# Altium footprint library MB0002A.01.A.1.PcbLib: 1 footprints
Each footprint in its own frame and in the unit in brackets; x right, y up, seen from the top. Pads: shape width x height; smd on the part's side, far side on the other; paste and mask are expansions set on the pad; w line width, h text height; cw(c..) or ccw(c..) is an arc to the next point about the centre after c.
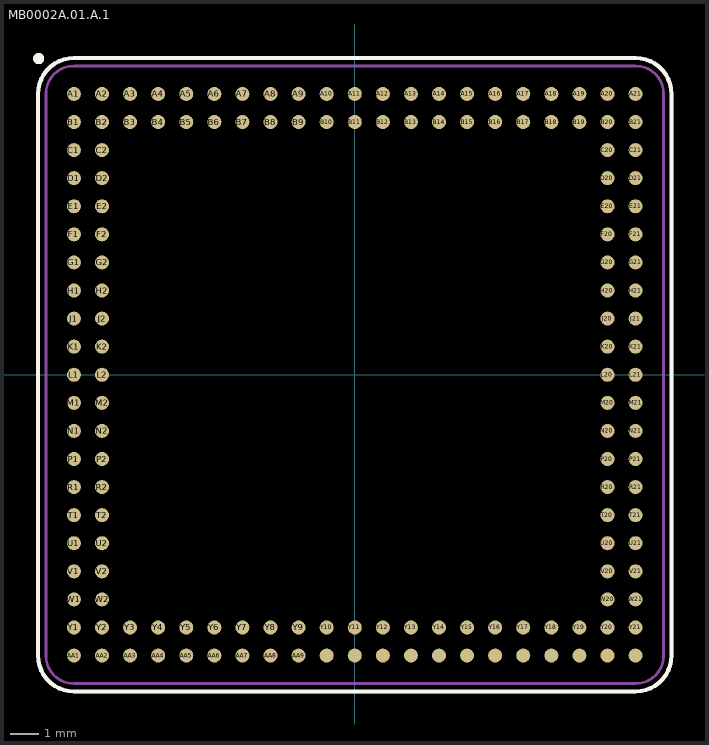
[diagram p0: the footprint, top view; thin cyan lines are the x and y axes]

## MB0002A.01.A.1 [mm]
height 1.2
pads (152):
  round 0.5 smd: A1(-10,10) A2(-9,10) A3(-8,10) A4(-7,10) A5(-6,10) A6(-5,10) A7(-4,10) A8(-3,10) A9(-2,10) A10(-1,10) A11(0,10) A12(1,10) A13(2,10) A14(3,10) A15(4,10) A16(5,10) A17(6,10) A18(7,10) A19(8,10) A20(9,10) A21(10,10) AA1(-10,-10) AA2(-9,-10) AA3(-8,-10) AA4(-7,-10) AA5(-6,-10) AA6(-5,-10) AA7(-4,-10) AA8(-3,-10) AA9(-2,-10) AA10(-1,-10) AA11(0,-10) AA12(1,-10) AA13(2,-10) AA14(3,-10) AA15(4,-10) AA16(5,-10) AA17(6,-10) AA18(7,-10) AA19(8,-10) AA20(9,-10) AA21(10,-10) B1(-10,9) B2(-9,9) B3(-8,9) B4(-7,9) B5(-6,9) B6(-5,9) B7(-4,9) B8(-3,9) B9(-2,9) B10(-1,9) B11(0,9) B12(1,9) B13(2,9) B14(3,9) B15(4,9) B16(5,9) B17(6,9) B18(7,9) B19(8,9) B20(9,9) B21(10,9) C1(-10,8) C2(-9,8) C20(9,8) C21(10,8) D1(-10,7) D2(-9,7) D20(9,7) D21(10,7) E1(-10,6) E2(-9,6) E20(9,6) E21(10,6) F1(-10,5) F2(-9,5) F20(9,5) F21(10,5) G1(-10,4) G2(-9,4) G20(9,4) G21(10,4) H1(-10,3) H2(-9,3) H20(9,3) H21(10,3) J1(-10,2) J2(-9,2) J20(9,2) J21(10,2) K1(-10,1) K2(-9,1) K20(9,1) K21(10,1) L1(-10,0) L2(-9,0) L20(9,0) L21(10,0) M1(-10,-1) M2(-9,-1) M20(9,-1) M21(10,-1) N1(-10,-2) N2(-9,-2) N20(9,-2) N21(10,-2) P1(-10,-3) P2(-9,-3) P20(9,-3) P21(10,-3) R1(-10,-4) R2(-9,-4) R20(9,-4) R21(10,-4) T1(-10,-5) T2(-9,-5) T20(9,-5) T21(10,-5) U1(-10,-6) U2(-9,-6) U20(9,-6) U21(10,-6) V1(-10,-7) V2(-9,-7) V20(9,-7) V21(10,-7) W1(-10,-8) W2(-9,-8) W20(9,-8) W21(10,-8) Y1(-10,-9) Y2(-9,-9) Y3(-8,-9) Y4(-7,-9) Y5(-6,-9) Y6(-5,-9) Y7(-4,-9) Y8(-3,-9) Y9(-2,-9) Y10(-1,-9) Y11(0,-9) Y12(1,-9) Y13(2,-9) Y14(3,-9) Y15(4,-9) Y16(5,-9) Y17(6,-9) Y18(7,-9) Y19(8,-9) Y20(9,-9) Y21(10,-9)
Top Overlay:
  circle w0.2: c-11.258,11.258 r0.1
  lines w0.152: 10,-11.278 ccw(c10,-10) 11.278,-10 11.278,10 ccw(c10,10) 10,11.278 -10,11.278 ccw(c-10,10) -11.278,10 -11.278,-9.999 ccw(c-10,-9.999) -10,-11.277 10.006,-11.278
Mechanical 13:
  lines w0.1: 10,-11 ccw(c10,-10) 11,-10 11,10 ccw(c10,10) 10,11 -10,11 ccw(c-10,10) -11,10 -11,-9.999 ccw(c-10,-9.999) -10,-10.999 10.006,-11
Mechanical 15:
  lines w0.1: -10,-11.304 10.006,-11.304 ; -10,-11.303 cw(c-10,-9.999) -11.304,-9.999 -11.304,10 cw(c-10,10) -10,11.304 10,11.304 cw(c10,10) 11.304,10 11.304,-10 cw(c10,-10) 10,-11.304
3D body: height 3.81, standoff 0, extent -11.3,-11.3 11.3,11.3